# Altium schematic symbol library MCP73831T-2ACI - LiPo charger.Schlib: 1 symbol
Pins are listed as number, name and electrical type; pins without a type are passive.

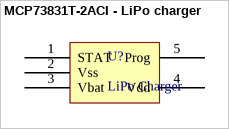
[diagram p0: symbol MCP73831T-2ACI - LiPo charger]

## MCP73831T-2ACI - LiPo charger
designator U?, comment LiPo Charger
MCP73831T-2ACI - LiPo charger
pins: 1 STAT, 2 Vss, 3 Vbat, 4 Vdd, 5 Prog